# Altium footprint library Adafruit BNO055.PcbLib: 1 footprints
Each footprint in its own frame and in the unit in brackets; x right, y up, seen from the top. Pads: shape width x height; smd on the part's side, far side on the other; paste and mask are expansions set on the pad; w line width, h text height; cw(c..) or ccw(c..) is an arc to the next point about the centre after c.
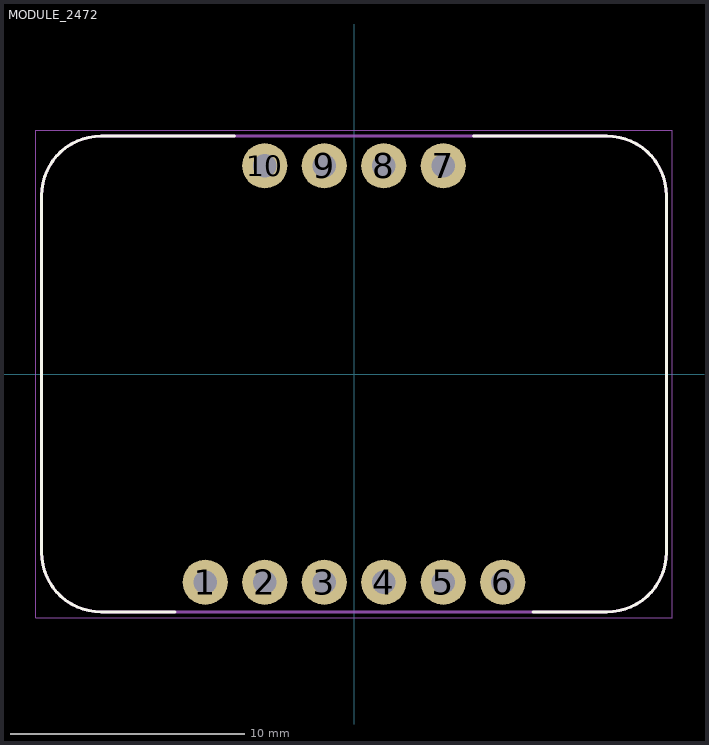
[diagram p0: the footprint, top view; thin cyan lines are the x and y axes]

## MODULE_2472 [mil]
pads (10):
  round 76 hole 39.37: 1(-250,-350) 2(-150,-350) 3(-50,-350) 4(50,-350) 5(150,-350) 6(250,-350) 7(150,350) 8(50,350) 9(-50,350) 10(-150,350)
Top Overlay:
  lines w5: -300.6,-400 -425,-400 cw(c-425,-300) -525,-300 -525,300 cw(c-425,300) -425,400 -200.6,400 ; 200.6,400 425,400 cw(c425,300) 525,300 525,-300 cw(c425,-300) 425,-400 300.6,-400
Mechanical 7:
  text "PS0" at -189.72,263.14 h27.2
  text "PS1" at -85.19,263.14 h27.2
  text "INT" at 18.77,265.03 h27.2
  text "ADR" at 115.83,263.14 h27.2
  text "RST" at 216.86,-296.86 h27.2
  text "SCL" at 115.28,-296.86 h27.2
  text "SDA" at 15.28,-296.86 h27.2
  text "GND" at -84.72,-296.86 h27.2
  text "3vo" at -188.65,-296.86 h27.2
  text "Vin" at -283.75,-296.86 h27.2
Mechanical 13:
  lines w5: -525,-300 ccw(c-425,-300) -425,-400 425,-400 ccw(c425,-300) 525,-300 525,300 ccw(c425,300) 425,400 -425,400 ccw(c-425,300) -525,300 -525,-300
Mechanical 15:
  lines w1.97: -534.84,-409.84 -534.84,409.84 534.84,409.84 534.84,-409.84 -534.84,-409.84
3D body "step_temp.STEP": height 166.54, standoff 0, extent -525,-400 525,400